# Altium schematic symbol library BRT_transistors.SchLib: 1 symbol
Pins are listed as number, name and electrical type; pins without a type are passive.

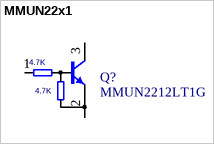
[diagram p0: symbol MMUN22x1]

## MMUN22x1
designator Q?, comment MMUN2212LT1G
NPN Transistors with Monolithic Bias Resistor Network; R2: 4.7K; Name: MMUN2212LT1G; Author: itxs; BOMString: MMUN2212LT1G; HelpURL: http://www.semtech.ru/pdf/transistors/5121310439840.pdf; Supplier: https://www.electronshik.ru/item/ONS/MMUN2212LT1G; R1: 4.7K
footprint SOT-23
pins: 1 B, 2 E, 3 C